# EAGLE library part PICAXE-20M2/20X2 (library PICAXE)
PICAXE chips come in two series – the M2 and X2 series – and 6 physical sizes (8, 14, 18, 20, 28, 40 pin). Feature 08M2 14M2 18M2 20M2 20X2 28X2 40X2 Memory Capacity(bytes) 2048 2048 x2 2048 x2 2048 x2 4096 4096 x4 4096 x4 RAM (bytes) 128 512 512 512 256 1280 1280 Byte Variables (bytes) 28 28 28 28 56 56 56 Input/Outputs Pins 6 12 16 18 18 22 33 ADC/Touch Pins 3 7 10 11 11 16 27 Max. Freq. (MHz) 32 32 32 32 64 64 64 Serial In/Out Yes Yes Yes Yes Yes Yes Yes Infrared In/Out Yes Yes Yes Yes Yes Yes Yes I2C Yes Yes Yes Yes Yes Yes Yes Tune (ring tones) Yes Yes Yes Yes Yes Yes Yes Parallel Tasks 4 8 8 8 1 1 1 Program Slots 1 2 2 2 1 4 4
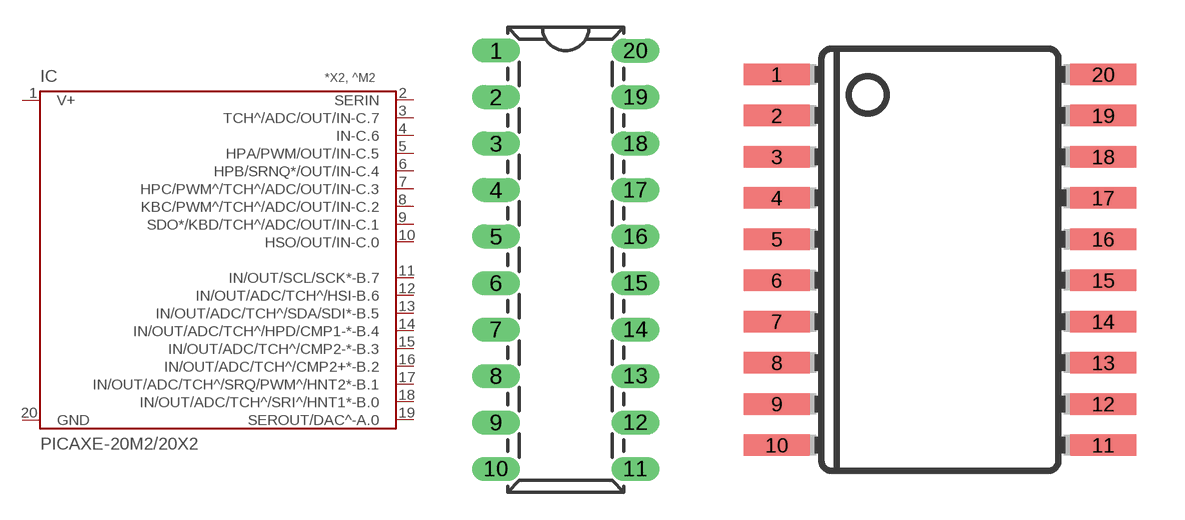
[diagram p3: symbol with the pads of DIL20; footprints DIL20, SOIC20W]

Designator prefix IC

## PICAXE-20M2/20X2-DIL  [DIL20]
1  V+  pwr
2  SERIN  in
3  TCH^/ADC/OUT/IN-C.7
4  IN-C.6  in
5  HPA/PWM/OUT/IN-C.5
6  HPB/SRNQ*/OUT/IN-C.4
7  HPC/PWM^/TCH^/ADC/OUT/IN-C.3
8  KBC/PWM^/TCH^/ADC/OUT/IN-C.2
9  SDO*/KBD/TCH^/ADC/OUT/IN-C.1
10  HSO/OUT/IN-C.0
11  IN/OUT/SCL/SCK*-B.7
12  IN/OUT/ADC/TCH^/HSI-B.6
13  IN/OUT/ADC/TCH^/SDA/SDI*-B.5
14  IN/OUT/ADC/TCH^/HPD/CMP1-*-B.4
15  IN/OUT/ADC/TCH^/CMP2-*-B.3
16  IN/OUT/ADC/TCH^/CMP2+*-B.2
17  IN/OUT/ADC/TCH^/SRQ/PWM^/HNT2*-B.1
18  IN/OUT/ADC/TCH^/SRI^/HNT1*-B.0
19  SEROUT/DAC^-A.0  out
20  GND  pwr

## PICAXE-20M2/20X2-SMD  [SOIC20W]
Pads as for DIL20

## Footprint DIL20 (pad centres in mm)
drill 0.8 pad 1.27 long: 1 -3.81,10.16; 2 -3.81,7.62; 3 -3.81,5.08; 4 -3.81,2.54; 5 -3.81,0; 6 -3.81,-2.54; 7 -3.81,-5.08; 8 -3.81,-7.62; 9 -3.81,-10.16; 10 -3.81,-12.7; 11 3.81,-12.7; 12 3.81,-10.16; 13 3.81,-7.62; 14 3.81,-5.08; 15 3.81,-2.54; 16 3.81,0; 17 3.81,2.54; 18 3.81,5.08; 19 3.81,7.62; 20 3.81,10.16

## Footprint SOIC20W (pad centres in mm)
smd 2.032 x 0.66: 1 -5.029,5.715; 2 -5.029,4.445; 3 -5.029,3.175; 4 -5.029,1.905; 5 -5.029,0.635; 6 -5.029,-0.635; 7 -5.029,-1.905; 8 -5.029,-3.175; 9 -5.029,-4.445; 10 -5.029,-5.715; 11 5.029,-5.715; 12 5.029,-4.445; 13 5.029,-3.175; 14 5.029,-1.905; 15 5.029,-0.635; 16 5.029,0.635; 17 5.029,1.905; 18 5.029,3.175; 19 5.029,4.445; 20 5.029,5.715